# Altium footprint library SAMTEC_SLM-107-01-G-S.PcbLib: 1 footprints
Each footprint in its own frame and in the unit in brackets; x right, y up, seen from the top. Pads: shape width x height; smd on the part's side, far side on the other; paste and mask are expansions set on the pad; w line width, h text height; cw(c..) or ccw(c..) is an arc to the next point about the centre after c.
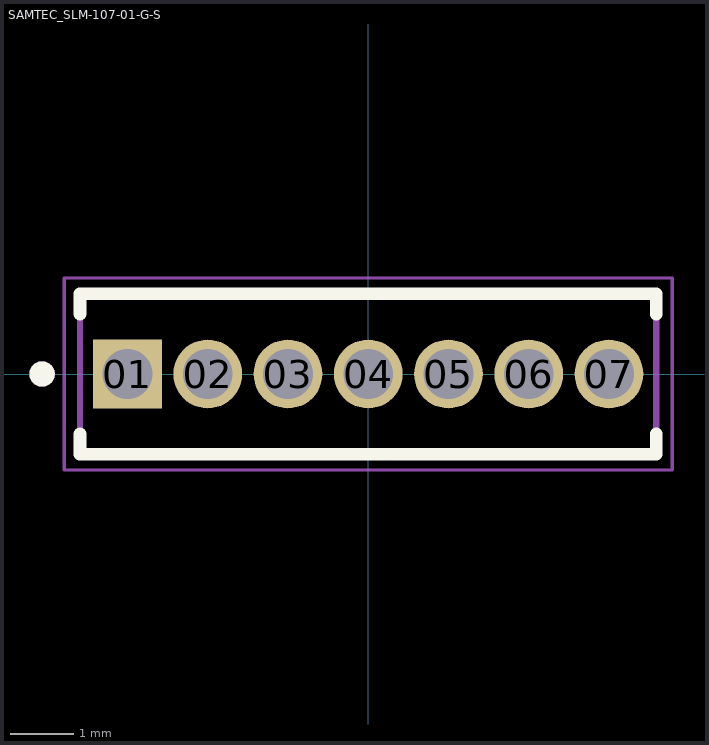
[diagram p0: the footprint, top view; thin cyan lines are the x and y axes]

## SAMTEC_SLM-107-01-G-S [mil]
pads (7):
  rect 42.81x42.81 hole 30.98: 01(-150,0)
  round 42.81 hole 30.98: 02(-100,0) 03(-50,0) 04(0,0) 05(50,0) 06(100,0) 07(150,0)
Top Overlay:
  circle w7.87: c-203.15,0 r3.94
  lines w7.87: -179.53,-37.4 -179.53,-50 179.53,-50 179.53,-37.4 ; -179.53,37.4 -179.53,50 179.53,50 179.53,37.4
Mechanical 13:
  circle w7.87: c-203.15,0 r3.94
  lines w3.94: -179.53,-50 -179.53,50 179.53,50 179.53,-50 -179.53,-50
Mechanical 15:
  lines w1.97: -189.37,-59.84 -189.37,59.84 189.37,59.84 189.37,-59.84 -189.37,-59.84